# Altium footprint library Resistors.PcbLib: 17 footprints (part 2 of 2)
Each footprint in its own frame and in the unit in brackets; x right, y up, seen from the top. Pads: shape width x height; smd on the part's side, far side on the other; paste and mask are expansions set on the pad; w line width, h text height; cw(c..) or ccw(c..) is an arc to the next point about the centre after c.
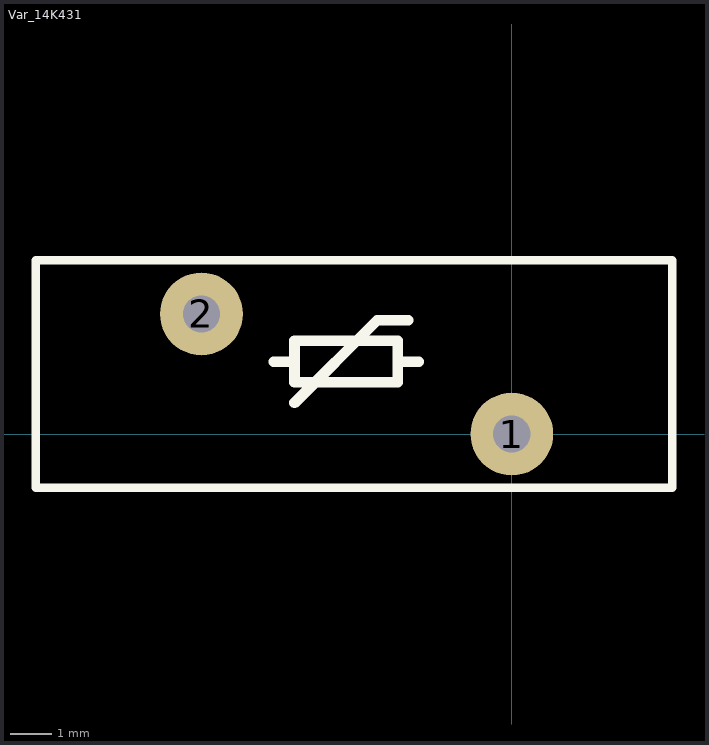
[diagram p1: the footprint, top view; thin cyan lines are the x and y axes]

## Var_14K431 [mm]
height 18
pads (2):
  round 2 hole 0.9: 1(0,0) 2(-7.5,2.9)
Top Overlay:
  lines w0.2: -11.5,-1.3 3.875,-1.3 3.875,4.2 -11.5,4.2 -11.5,-1.3
  lines w0.254: -5.75,1.75 -5.25,1.75 ; -5.25,0.75 -3.25,2.75 -2.5,2.75 ; -2.25,1.75 -2.75,1.75 ; -5.25,1.75 -5.25,2.25 -2.75,2.25 -2.75,1.75 ; -5.25,1.75 -5.25,1.25 -2.75,1.25 -2.75,1.75
3D body: height 18.5, standoff -3, extent -11.55,-0.6 3.95,3.6